# Altium footprint library BOURNS_SRN6045.PcbLib: 1 footprints
Each footprint in its own frame and in the unit in brackets; x right, y up, seen from the top. Pads: shape width x height; smd on the part's side, far side on the other; paste and mask are expansions set on the pad; w line width, h text height; cw(c..) or ccw(c..) is an arc to the next point about the centre after c.
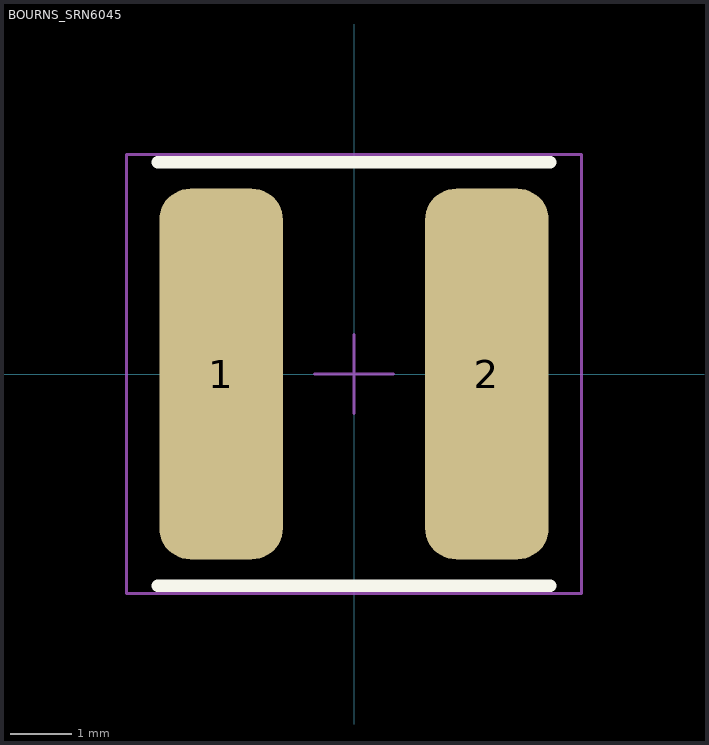
[diagram p0: the footprint, top view; thin cyan lines are the x and y axes]

## BOURNS_SRN6045 [mm] "Footprint for Bourns SRN6045 Series inductors"
pads (2):
  rrect50% 2x6 smd: 1(-2.15,0) 2(2.15,0)
Top Overlay:
  lines w0.2: -3.175,-3.429 3.175,-3.429 ; -3.175,3.429 3.175,3.429
Mechanical 15:
  lines w0.05: -0.635,0 0.635,0 ; 0,-0.635 0,0.635 ; -3.683,-3.556 -3.683,3.556 3.683,3.556 3.683,-3.556 -3.683,-3.556
3D body: height 4.5, standoff 0, extent -3,-3 3,3